# Altium schematic symbol library SFMC-107-02-S-D.Schlib: 1 symbol
Pins are listed as number, name and electrical type; pins without a type are passive.

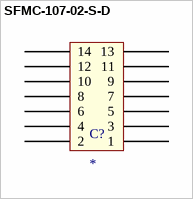
[diagram p0: symbol SFMC-107-02-S-D]

## SFMC-107-02-S-D
designator C?
SFMC-107-02-S-D CONN RCPT 14POS DUAL .05" SMD
pins: 1, 2, 3, 4, 5, 6, 7, 8, 9, 10, 11, 12, 13, 14